# EAGLE library part MAX1811 (library ERIC)
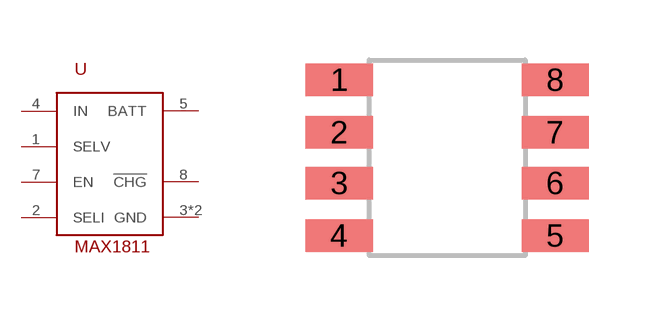
[diagram p3: symbol with the pads of DELETE_ME; footprint DELETE_ME]

Designator prefix -

## MAX18118_SO  [DELETE_ME]
1  SELV
2  SELI
3  GND
4  IN
5  BATT
6  GND
7  EN
8  !CHG!

## Footprint DELETE_ME (pad centres in mm)
8-lead Plastic Small Outline (SN) - Narrow, 3.90mm Body [SOIC] page 142 of "Microchip Packaging Specification"
smd 1.676 x 0.813: 1 -2.7,1.95; 2 -2.7,0.635; 3 -2.7,-0.635; 4 -2.7,-1.95; 5 2.7,-1.95; 6 2.7,-0.635; 7 2.7,0.635; 8 2.7,1.95